# EAGLE library part IP2002 (library irs)
Synchronous Buck Multiphase Optimized BGA Power Block Source: www.irf.com/product-info/datasheets/data/ip2002.pdf
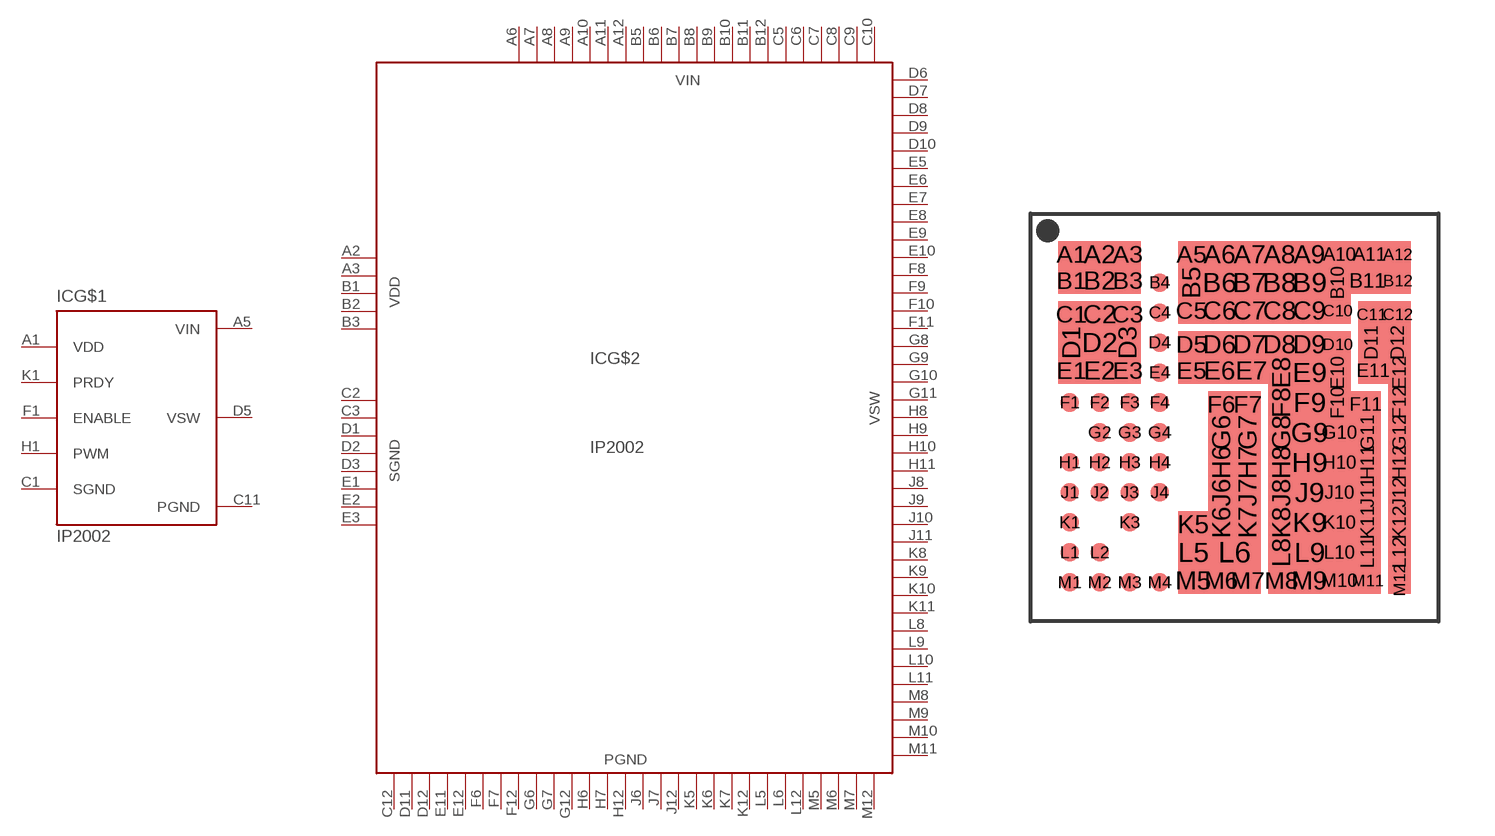
[diagram p1: symbol with the pads of BGA-IP2002; footprint BGA-IP2002]

Designator prefix IC; gates G$1=IP2002 G$2=IP2002-PWR

## IP2002 (MF: INTERNATIONAL RECTIFIER(IR); MPN: IP2002PBF; OC_FARNELL: unknown; OC_NEWARK: 11M2015)  [BGA-IP2002]
A1  G$1:VDD  pwr
A2  G$2:VDD  pwr
A3  G$2:VDD  pwr
A5  G$1:VIN  pwr
A6  G$2:VIN  pwr
A7  G$2:VIN  pwr
A8  G$2:VIN  pwr
A9  G$2:VIN  pwr
A10  G$2:VIN  pwr
A11  G$2:VIN  pwr
A12  G$2:VIN  pwr
B1  G$2:VDD  pwr
B2  G$2:VDD  pwr
B3  G$2:VDD  pwr
B5  G$2:VIN  pwr
B6  G$2:VIN  pwr
B7  G$2:VIN  pwr
B8  G$2:VIN  pwr
B9  G$2:VIN  pwr
B10  G$2:VIN  pwr
B11  G$2:VIN  pwr
B12  G$2:VIN  pwr
C1  G$1:SGND  pwr
C2  G$2:SGND  pwr
C3  G$2:SGND  pwr
C5  G$2:VIN  pwr
C6  G$2:VIN  pwr
C7  G$2:VIN  pwr
C8  G$2:VIN  pwr
C9  G$2:VIN  pwr
C10  G$2:VIN  pwr
C11  G$1:PGND  pwr
C12  G$2:PGND  pwr
D1  G$2:SGND  pwr
D2  G$2:SGND  pwr
D3  G$2:SGND  pwr
D5  G$1:VSW  pwr
D6  G$2:VSW  pwr
D7  G$2:VSW  pwr
D8  G$2:VSW  pwr
D9  G$2:VSW  pwr
D10  G$2:VSW  pwr
D11  G$2:PGND  pwr
D12  G$2:PGND  pwr
E1  G$2:SGND  pwr
E2  G$2:SGND  pwr
E3  G$2:SGND  pwr
E5  G$2:VSW  pwr
E6  G$2:VSW  pwr
E7  G$2:VSW  pwr
E8  G$2:VSW  pwr
E9  G$2:VSW  pwr
E10  G$2:VSW  pwr
E11  G$2:PGND  pwr
E12  G$2:PGND  pwr
F1  G$1:ENABLE  in
F6  G$2:PGND  pwr
F7  G$2:PGND  pwr
F8  G$2:VSW  pwr
F9  G$2:VSW  pwr
F10  G$2:VSW  pwr
F11  G$2:VSW  pwr
F12  G$2:PGND  pwr
G6  G$2:PGND  pwr
G7  G$2:PGND  pwr
G8  G$2:VSW  pwr
G9  G$2:VSW  pwr
G10  G$2:VSW  pwr
G11  G$2:VSW  pwr
G12  G$2:PGND  pwr
H1  G$1:PWM  in
H6  G$2:PGND  pwr
H7  G$2:PGND  pwr
H8  G$2:VSW  pwr
H9  G$2:VSW  pwr
H10  G$2:VSW  pwr
H11  G$2:VSW  pwr
H12  G$2:PGND  pwr
J6  G$2:PGND  pwr
J7  G$2:PGND  pwr
J8  G$2:VSW  pwr
J9  G$2:VSW  pwr
J10  G$2:VSW  pwr
J11  G$2:VSW  pwr
J12  G$2:PGND  pwr
K1  G$1:PRDY  in
K5  G$2:PGND  pwr
K6  G$2:PGND  pwr
K7  G$2:PGND  pwr
K8  G$2:VSW  pwr
K9  G$2:VSW  pwr
K10  G$2:VSW  pwr
K11  G$2:VSW  pwr
K12  G$2:PGND  pwr
L5  G$2:PGND  pwr
L6  G$2:PGND  pwr
L8  G$2:VSW  pwr
L9  G$2:VSW  pwr
L10  G$2:VSW  pwr
L11  G$2:VSW  pwr
L12  G$2:PGND  pwr
M5  G$2:PGND  pwr
M6  G$2:PGND  pwr
M7  G$2:PGND  pwr
M8  G$2:VSW  pwr
M9  G$2:VSW  pwr
M10  G$2:VSW  pwr
M11  G$2:VSW  pwr
M12  G$2:PGND  pwr

## Footprint BGA-IP2002 (pad centres in mm)
BGA Power Block Source: www.irf.com/product-info/datasheets/data/ip2002.pdf
smd 0.7 x 0.7: A1 -4.35,4.35; A3 -2.85,4.35; A5 -1.15,4.35; A12 4.35,4.35; B1 -4.35,3.65; B3 -2.85,3.65; B12 4.35,3.65; C1 -4.35,2.75; C3 -2.85,2.75; C5 -1.15,2.85; C10 2.75,2.85; C11 3.65,2.75; C12 4.35,2.75; D5 -1.15,1.95; D10 2.75,1.95; E1 -4.35,1.25; E3 -2.85,1.25; E5 -1.15,1.25; F6 -0.35,0.35; F7 0.35,0.35; M6 -0.35,-4.35; M7 0.35,-4.35; M8 1.25,-4.35; M11 3.55,-4.35
smd 0.8 x 0.7: A2 -3.6,4.35; A6 -0.4,4.35; A7 0.4,4.35; A8 1.2,4.35; A9 2,4.35; A10 2.8,4.35; A11 3.6,4.35; B2 -3.6,3.65; C2 -3.6,2.75; C6 -0.4,2.85; C7 0.4,2.85; C8 1.2,2.85; C9 2,2.85; D6 -0.4,1.95; D7 0.4,1.95; D8 1.2,1.95; D9 2,1.95; E2 -3.6,1.25; E6 -0.4,1.25; E11 3.7,1.25; F11 3.5,0.35; K5 -1.1,-2.85; M5 -1.1,-4.35; M9 2,-4.35; M10 2.8,-4.35
smd 0.5 x 0.5: B4 -2,3.6; C4 -2,2.8; D4 -2,2; E4 -2,1.2; F1 -4.4,0.4; F2 -3.6,0.4; F3 -2.8,0.4; F4 -2,0.4; G2 -3.6,-0.4; G3 -2.8,-0.4; G4 -2,-0.4; H1 -4.4,-1.2; H2 -3.6,-1.2; H3 -2.8,-1.2; H4 -2,-1.2; J1 -4.4,-2; J2 -3.6,-2; J3 -2.8,-2; J4 -2,-2; K1 -4.4,-2.8; K3 -2.8,-2.8; L1 -4.4,-3.6; L2 -3.6,-3.6; M1 -4.4,-4.4; M2 -3.6,-4.4; M3 -2.8,-4.4; M4 -2,-4.4
smd 0.7 x 0.8: B5 -1.15,3.6; B10 2.75,3.6; D1 -4.35,2; D3 -2.85,2; D11 3.65,2; D12 4.35,2; E8 1.25,1.2; E10 2.75,1.2; F8 1.25,0.4; F10 2.75,0.4; G6 -0.35,-0.4; G7 0.35,-0.4; G8 1.25,-0.4; G11 3.55,-0.4; H6 -0.35,-1.2; H7 0.35,-1.2; H8 1.25,-1.2; H11 3.55,-1.2; J6 -0.35,-2; J7 0.35,-2; J8 1.25,-2; J11 3.55,-2; K6 -0.35,-2.8; K7 0.35,-2.8; K8 1.25,-2.8; K11 3.55,-2.8; L8 1.25,-3.6; L11 3.55,-3.6
smd 0.8 x 0.8: B6 -0.4,3.6; B7 0.4,3.6; B8 1.2,3.6; B9 2,3.6; D2 -3.6,2; E9 2,1.2; F9 2,0.4; G9 2,-0.4; G10 2.8,-0.4; H9 2,-1.2; H10 2.8,-1.2; J9 2,-2; J10 2.8,-2; K9 2,-2.8; K10 2.8,-2.8; L5 -1.1,-3.6; L9 2,-3.6; L10 2.8,-3.6
smd 0.9 x 0.7: B11 3.55,3.65; E7 0.45,1.25
smd 0.6 x 0.8: E12 4.4,1.2; F12 4.4,0.4; G12 4.4,-0.4; H12 4.4,-1.2; J12 4.4,-2; K12 4.4,-2.8; L12 4.4,-3.6
smd 1.4 x 0.8: L6 0,-3.6
smd 0.6 x 0.7: M12 4.4,-4.35